# Altium schematic symbol library 691 701 350 0xx B.SchLib: 11 symbols
Pins are listed as number, name and electrical type; pins without a type are passive.

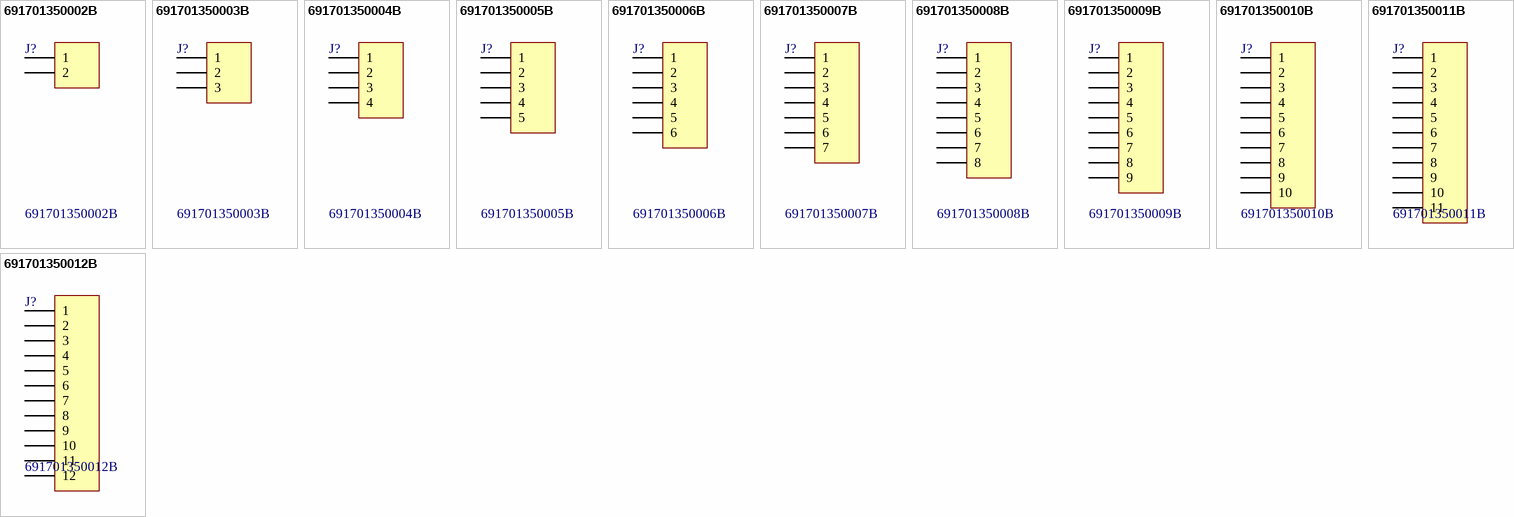
[diagram p0: symbols 691701350002B to 691701350012B]

## 691701350002B
designator J?
WR-TBL Terminal block - serie 7013 B- 3.81 mm; Manufacturer: Würth Elektronik eiSos GmbH; ComponentLink1 Description: Manufacturer; ComponentLink2 Description: Datasheet; NoPins: 02; Created Date: 27 December 2013; partNo: 691701350002B; ComponentLink1URL: http://www.we-online.com; ComponentLink2URL: http://katalog.we-online.de/em/datasheet/6917013500xxB.pdf; Created by: Karrer Zheng
footprint 691701350002B (THR - 3,81mm - PCB Horizontal Flange - 02p)
pins: 1, 2

## 691701350003B
designator J?
WR-TBL Terminal block - serie 7013 B- 3.81 mm; Manufacturer: Würth Elektronik eiSos GmbH; ComponentLink1 Description: Manufacturer; ComponentLink2 Description: Datasheet; NoPins: 03; Created Date: 27 December 2013; partNo: 691701350003B; ComponentLink1URL: http://www.we-online.com; ComponentLink2URL: http://katalog.we-online.de/em/datasheet/6917013500xxB.pdf; Created by: Karrer Zheng
footprint 691701350003B (THR - 3,81mm - PCB Horizontal Flange - 03p)
pins: 1, 2, 3

## 691701350004B
designator J?
WR-TBL Terminal block - serie 7013 B- 3.81 mm; Manufacturer: Würth Elektronik eiSos GmbH; ComponentLink1 Description: Manufacturer; ComponentLink2 Description: Datasheet; NoPins: 04; Created Date: 27 December 2013; partNo: 691701350004B; ComponentLink1URL: http://www.we-online.com; ComponentLink2URL: http://katalog.we-online.de/em/datasheet/6917013500xxB.pdf; Created by: Karrer Zheng
footprint 691701350004B (THR - 3,81mm - PCB Horizontal Flange - 04p)
pins: 1, 2, 3, 4

## 691701350005B
designator J?
WR-TBL Terminal block - serie 7013 B- 3.81 mm; Manufacturer: Würth Elektronik eiSos GmbH; ComponentLink1 Description: Manufacturer; ComponentLink2 Description: Datasheet; NoPins: 05; Created Date: 27 December 2013; partNo: 691701350005B; ComponentLink1URL: http://www.we-online.com; ComponentLink2URL: http://katalog.we-online.de/em/datasheet/6917013500xxB.pdf; Created by: Karrer Zheng
footprint 691701350005B (THR - 3,81mm - PCB Horizontal Flange - 05p)
pins: 1, 2, 3, 4, 5

## 691701350006B
designator J?
WR-TBL Terminal block - serie 7013 B- 3.81 mm; Manufacturer: Würth Elektronik eiSos GmbH; ComponentLink1 Description: Manufacturer; ComponentLink2 Description: Datasheet; NoPins: 06; Created Date: 27 December 2013; partNo: 691701350006B; ComponentLink1URL: http://www.we-online.com; ComponentLink2URL: http://katalog.we-online.de/em/datasheet/6917013500xxB.pdf; Created by: Karrer Zheng
footprint 691701350006B (THR - 3,81mm - PCB Horizontal Flange - 06p)
pins: 1, 2, 3, 4, 5, 6

## 691701350007B
designator J?
WR-TBL Terminal block - serie 7013 B- 3.81 mm; Manufacturer: Würth Elektronik eiSos GmbH; ComponentLink1 Description: Manufacturer; ComponentLink2 Description: Datasheet; NoPins: 07; Created Date: 27 December 2013; partNo: 691701350007B; ComponentLink1URL: http://www.we-online.com; ComponentLink2URL: http://katalog.we-online.de/em/datasheet/6917013500xxB.pdf; Created by: Karrer Zheng
footprint 691701350007B (THR - 3,81mm - PCB Horizontal Flange - 07p)
pins: 1, 2, 3, 4, 5, 6, 7

## 691701350008B
designator J?
WR-TBL Terminal block - serie 7013 B- 3.81 mm; Manufacturer: Würth Elektronik eiSos GmbH; ComponentLink1 Description: Manufacturer; ComponentLink2 Description: Datasheet; NoPins: 08; Created Date: 27 December 2013; partNo: 691701350008B; ComponentLink1URL: http://www.we-online.com; ComponentLink2URL: http://katalog.we-online.de/em/datasheet/6917013500xxB.pdf; Created by: Karrer Zheng
footprint 691701350008B (THR - 3,81mm - PCB Horizontal Flange - 08p)
pins: 1, 2, 3, 4, 5, 6, 7, 8

## 691701350009B
designator J?
WR-TBL Terminal block - serie 7013 B- 3.81 mm; Manufacturer: Würth Elektronik eiSos GmbH; ComponentLink1 Description: Manufacturer; ComponentLink2 Description: Datasheet; NoPins: 09; Created Date: 27 December 2013; partNo: 691701350009B; ComponentLink1URL: http://www.we-online.com; ComponentLink2URL: http://katalog.we-online.de/em/datasheet/6917013500xxB.pdf; Created by: Karrer Zheng
footprint 691701350009B (THR - 3,81mm - PCB Horizontal Flange - 09p)
pins: 1, 2, 3, 4, 5, 6, 7, 8, 9

## 691701350010B
designator J?
WR-TBL Terminal block - serie 7013 B- 3.81 mm; Manufacturer: Würth Elektronik eiSos GmbH; ComponentLink1 Description: Manufacturer; ComponentLink2 Description: Datasheet; NoPins: 10; Created Date: 27 December 2013; partNo: 691701350010B; ComponentLink1URL: http://www.we-online.com; ComponentLink2URL: http://katalog.we-online.de/em/datasheet/6917013500xxB.pdf; Created by: Karrer Zheng
footprint 691701350010B (THR - 3,81mm - PCB Horizontal Flange - 10p)
pins: 1, 2, 3, 4, 5, 6, 7, 8, 9, 10

## 691701350011B
designator J?
WR-TBL Terminal block - serie 7013 B- 3.81 mm; Manufacturer: Würth Elektronik eiSos GmbH; ComponentLink1 Description: Manufacturer; ComponentLink2 Description: Datasheet; NoPins: 11; Created Date: 27 December 2013; partNo: 691701350011B; ComponentLink1URL: http://www.we-online.com; ComponentLink2URL: http://katalog.we-online.de/em/datasheet/6917013500xxB.pdf; Created by: Karrer Zheng
footprint 691701350011B (THR - 3,81mm - PCB Horizontal Flange - 11p)
pins: 1, 2, 3, 4, 5, 6, 7, 8, 9, 10, 11

## 691701350012B
designator J?
WR-TBL Terminal block - serie 7013 B- 3.81 mm; Manufacturer: Würth Elektronik eiSos GmbH; ComponentLink1 Description: Manufacturer; ComponentLink2 Description: Datasheet; NoPins: 12; Created Date: 27 December 2013; partNo: 691701350012B; ComponentLink1URL: http://www.we-online.com; ComponentLink2URL: http://katalog.we-online.de/em/datasheet/6917013500xxB.pdf; Created by: Karrer Zheng
footprint 691701350012B (THR - 3,81mm - PCB Horizontal Flange - 12p)
pins: 1, 2, 3, 4, 5, 6, 7, 8, 9, 10, 11, 12